# Altium schematic symbol library Supplies.SCHLIB: 2 symbols
Pins are listed as number, name and electrical type; pins without a type are passive.

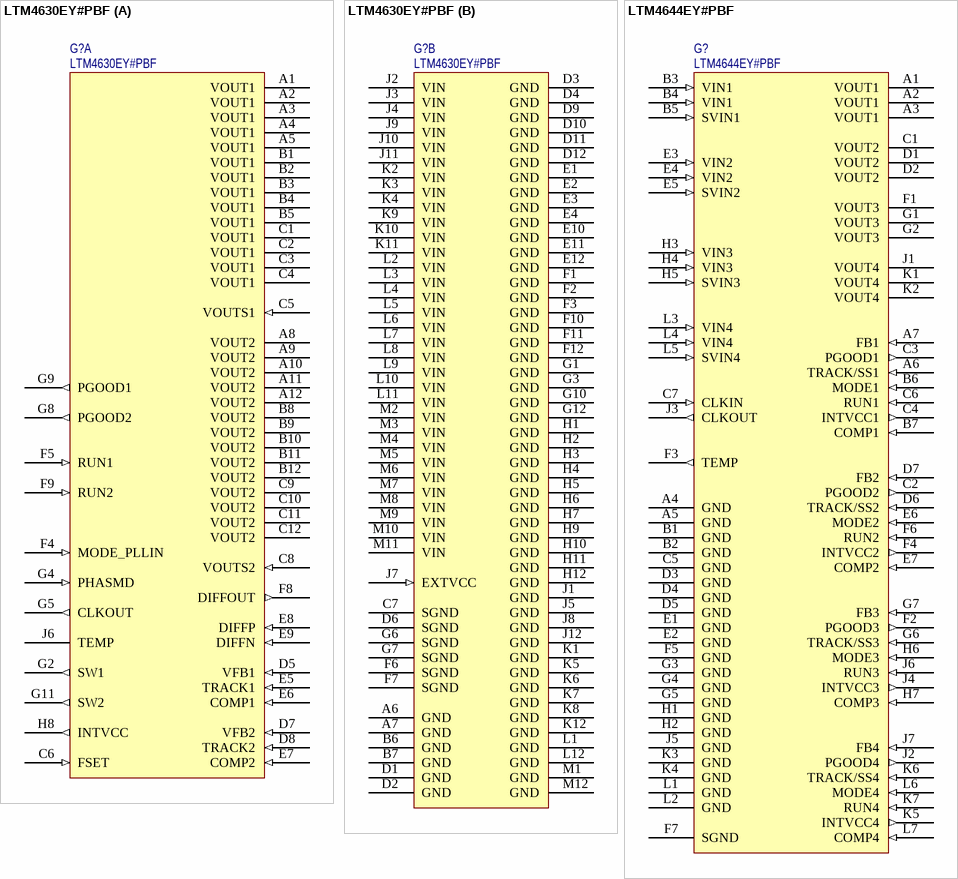
[diagram p0: symbols LTM4630EY#PBF to LTM4644EY#PBF]

## LTM4630EY#PBF
designator G?
DC-DC Converter; 2X 0.6-1.8V; BBGA144; Manufacturer: Analog Devices; Manufacturer Part Number: LTM4630EY#PBF; Supplier 1: Digi-key; Supplier Part Number 1: LTM4630EY#PBF-ND; ComponentLink1Description: Supplier Info; ComponentLink1URL: https://www.digikey.co.uk/en/products/detail/analog-devices-inc/LTM4630EY-PBF/4754670?s=N4IgTCBcDaIDIBUCyAWAbAZgAwFECaAxAAoBCAYgLQByAIiALoC%2BQA; ComponentLink2Description: Datasheet; ComponentLink2URL: https://www.analog.com/media/en/technical-documentation/data-sheets/4630fa.pdf; Value: LTM4630EY#PBF
footprint LTM4630 (Footprint not found)
part A pins: A1 VOUT1 (power), A2 VOUT1 (power), A3 VOUT1 (power), A4 VOUT1 (power), A5 VOUT1 (power), A8 VOUT2 (power), A9 VOUT2 (power), A10 VOUT2 (power), A11 VOUT2 (power), A12 VOUT2 (power), B1 VOUT1 (power), B2 VOUT1 (power), B3 VOUT1 (power), B4 VOUT1 (power), B5 VOUT1 (power), B8 VOUT2 (power), B9 VOUT2 (power), B10 VOUT2 (power), B11 VOUT2 (power), B12 VOUT2 (power), C1 VOUT1 (power), C2 VOUT1 (power), C3 VOUT1 (power), C4 VOUT1 (power), C5 VOUTS1 (in), C6 FSET (in), C8 VOUTS2 (in), C9 VOUT2 (power), C10 VOUT2 (power), C11 VOUT2 (power), C12 VOUT2 (power), D5 VFB1 (in), D7 VFB2 (in), D8 TRACK2 (in), E5 TRACK1 (in), E6 COMP1 (in), E7 COMP2 (in), E8 DIFFP (in), E9 DIFFN (in), F4 MODE_PLLIN (in), F5 RUN1 (in), F8 DIFFOUT (out), F9 RUN2 (in), G2 SW1 (out), G4 PHASMD (in), G5 CLKOUT (out), G8 PGOOD2 (out), G9 PGOOD1 (out), G11 SW2 (out), H8 INTVCC (out), J6 TEMP
part B pins: A6 GND (power), A7 GND (power), B6 GND (power), B7 GND (power), C7 SGND (power), D1 GND (power), D2 GND (power), D3 GND (power), D4 GND (power), D6 SGND (power), D9 GND (power), D10 GND (power), D11 GND (power), D12 GND (power), E1 GND (power), E2 GND (power), E3 GND (power), E4 GND (power), E10 GND (power), E11 GND (power), E12 GND (power), F1 GND (power), F2 GND (power), F3 GND (power), F6 SGND (power), F7 SGND (power), F10 GND (power), F11 GND (power), F12 GND (power), G1 GND (power), G3 GND (power), G6 SGND (power), G7 SGND (power), G10 GND (power), G12 GND (power), H1 GND (power), H2 GND (power), H3 GND (power), H4 GND (power), H5 GND (power), H6 GND (power), H7 GND (power), H9 GND (power), H10 GND (power), H11 GND (power), H12 GND (power), J1 GND (power), J2 VIN (power), J3 VIN (power), J4 VIN (power), J5 GND (power), J7 EXTVCC (in), J8 GND (power), J9 VIN (power), J10 VIN (power), J11 VIN (power), J12 GND (power), K1 GND (power), K2 VIN (power), K3 VIN (power), K4 VIN (power), K5 GND (power), K6 GND (power), K7 GND (power), K8 GND (power), K9 VIN (power), K10 VIN (power), K11 VIN (power), K12 GND (power), L1 GND (power), L2 VIN (power), L3 VIN (power), L4 VIN (power), L5 VIN (power), L6 VIN (power), L7 VIN (power), L8 VIN (power), L9 VIN (power), L10 VIN (power), L11 VIN (power), L12 GND (power), M1 GND (power), M2 VIN (power), M3 VIN (power), M4 VIN (power), M5 VIN (power), M6 VIN (power), M7 VIN (power), M8 VIN (power), M9 VIN (power), M10 VIN (power), M11 VIN (power), M12 GND (power)

## LTM4644EY#PBF
designator G?
DC-DC Converter; 4x 0.6-5.5V; BBGA77; Manufacturer: Analog Devices; Manufacturer Part Number: LTM4644EY#PBF; Supplier 1: Digi-key; Supplier Part Number 1: LTM4644EY#PBF-ND; ComponentLink1Description: Supplier Info; ComponentLink1URL: https://www.digikey.co.uk/en/products/detail/analog-devices-inc/LTM4644EY-PBF/4519299?s=N4IgTCBcDaIDIBUCyAWAbClBRAmgYgAUAhAMQFoA5AERAF0BfIA; ComponentLink2Description: Datasheet; ComponentLink2URL: https://www.analog.com/media/en/technical-documentation/data-sheets/LTM4644-4644-1.pdf; Value: LTM4644EY#PBF
footprint LTM4644 (Footprint not found)
pins: A1 VOUT1, A2 VOUT1, A3 VOUT1, A4 GND (power), A5 GND (power), A6 TRACK/SS1 (in), A7 FB1 (in), B1 GND (power), B2 GND (power), B3 VIN1 (in), B4 VIN1 (in), B5 SVIN1 (in), B6 MODE1 (in), B7 COMP1 (in), C1 VOUT2, C2 PGOOD2 (out), C3 PGOOD1 (out), C4 INTVCC1 (out), C5 GND (power), C6 RUN1 (in), C7 CLKIN (in), D1 VOUT2, D2 VOUT2, D3 GND (power), D4 GND (power), D5 GND (power), D6 TRACK/SS2 (in), D7 FB2 (in), E1 GND (power), E2 GND (power), E3 VIN2 (in), E4 VIN2 (in), E5 SVIN2 (in), E6 MODE2 (in), E7 COMP2 (in), F1 VOUT3, F2 PGOOD3 (out), F3 TEMP (out), F4 INTVCC2 (out), F5 GND (power), F6 RUN2 (in), F7 SGND (power), G1 VOUT3, G2 VOUT3, G3 GND (power), G4 GND (power), G5 GND (power), G6 TRACK/SS3 (in), G7 FB3 (in), H1 GND (power), H2 GND (power), H3 VIN3 (in), H4 VIN3 (in), H5 SVIN3 (in), H6 MODE3 (in), H7 COMP3 (in), J1 VOUT4, J2 PGOOD4 (out), J3 CLKOUT (out), J4 INTVCC3 (out), J5 GND (power), J6 RUN3 (in), J7 FB4 (in), K1 VOUT4, K2 VOUT4, K3 GND (power), K4 GND (power), K5 INTVCC4 (out), K6 TRACK/SS4 (in), K7 RUN4 (in), L1 GND (power), L2 GND (power), L3 VIN4 (in), L4 VIN4 (in), L5 SVIN4 (in), L6 MODE4 (in), L7 COMP4 (in)